# Altium schematic symbol library BoostConverterModules.SchLib: 1 symbol
Pins are listed as number, name and electrical type; pins without a type are passive.

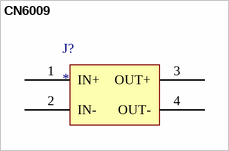
[diagram p0: symbol CN6009]

## CN6009
designator J?
footprint CN6009
pins: 1 IN+ (power), 2 IN- (power), 3 OUT+ (power), 4 OUT- (power)